# Altium footprint library PCB_Marking_Lib.PcbLib: 70 footprints (part 1 of 5)
Each footprint in its own frame and in the unit in brackets; x right, y up, seen from the top. Pads: shape width x height; smd on the part's side, far side on the other; paste and mask are expansions set on the pad; w line width, h text height; cw(c..) or ccw(c..) is an arc to the next point about the centre after c.
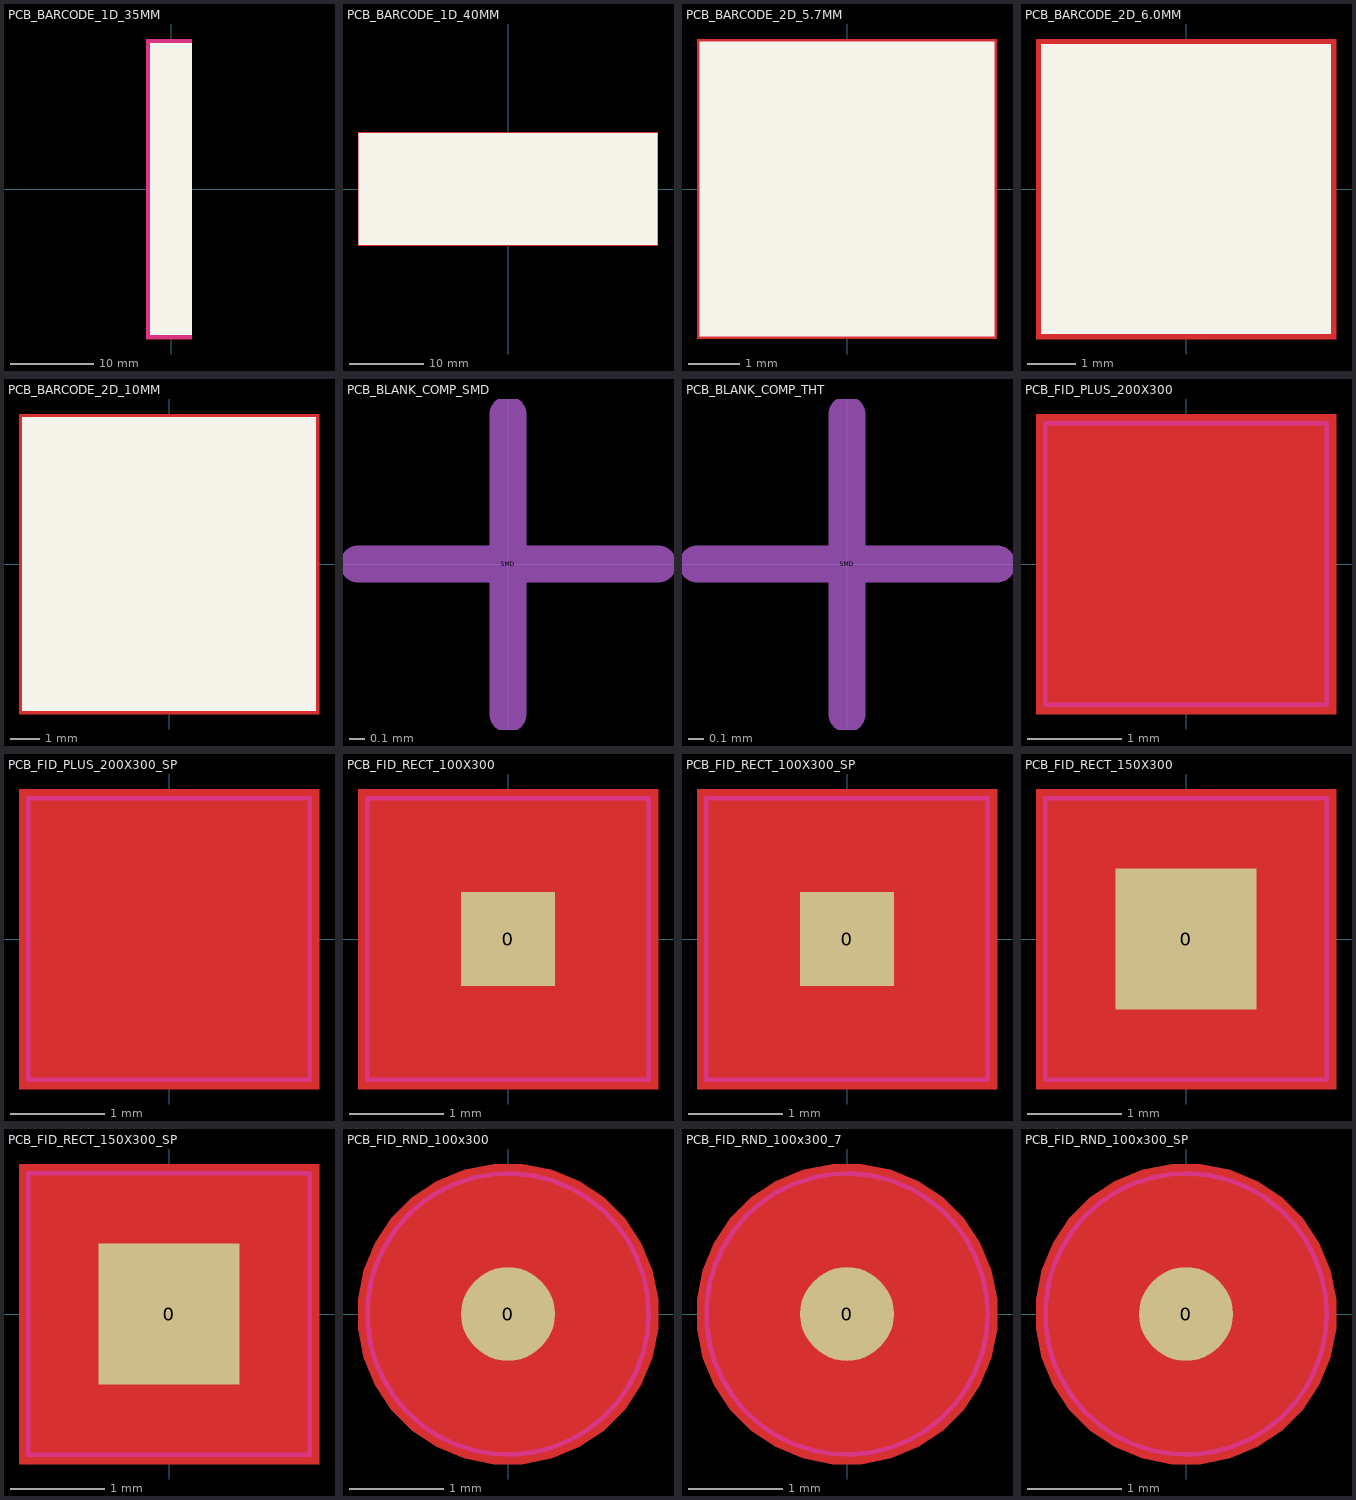
[diagram p0: the footprints below, top view; thin cyan lines are the x and y axes]

## PCB_BARCODE_1D_35MM [mm]
Top Layer:
  pour cut-out: -3,18 2.5,18 2.5,-18 -3,-18
Top Layer keep-out:
  rectangle: -3,-18 2.5,18
Top Overlay:
  rectangle: -2.5,-17.5 2.5,17.5

## PCB_BARCODE_1D_40MM [mm]
Top Layer:
  pour cut-out: -20.1,7.6 20.1,7.6 20.1,-7.6 -20.1,-7.6
Top Layer keep-out:
  rectangle: -20,-7.5 20,7.5
Top Overlay:
  rectangle: -20,-7.5 20,7.5

## PCB_BARCODE_2D_5.7MM [mm]
Top Layer:
  pour cut-out: -2.9,2.9 2.9,2.9 2.9,-2.9 -2.9,-2.9
Top Layer keep-out:
  rectangle: -2.85,-2.85 2.85,2.85
Top Overlay:
  rectangle: -2.85,-2.85 2.85,2.85

## PCB_BARCODE_2D_6.0MM [mm]
Top Layer:
  pour cut-out: -3.1,3.1 3.1,3.1 3.1,-3.1 -3.1,-3.1
Top Layer keep-out:
  rectangle: -3,-3 3,3
Top Overlay:
  rectangle: -3,-3 3,3

## PCB_BARCODE_2D_10MM [mm]
Top Layer:
  pour cut-out: -5.1,5.1 5.1,5.1 5.1,-5.1 -5.1,-5.1
Top Layer keep-out:
  rectangle: -5,-5 5,5
Top Overlay:
  rectangle: -5,-5 5,5

## PCB_BLANK_COMP_SMD [mm]
pads (1):
  round 0.1 on Mech19: SMD(0,0)
Mechanical 19:
  lines w0.25: -1,0 1,0 ; 0,-1 0,1
  text ".Designator" at -8.95,2.1 h2

## PCB_BLANK_COMP_THT [mm]
pads (1):
  round 0.1 on Mech21: SMD(0,0)
Mechanical 21:
  lines w0.25: -1,0 1,0 ; 0,-1 0,1
  text ".Designator" at -8.95,2.1 h2

## PCB_FID_PLUS_200X300 [mm]
Top Layer:
  pour cut-out: -1.6,1.6 1.6,1.6 1.6,-1.6 -1.6,-1.6
  region: -0.2,-1 -0.2,-0.2 -1,-0.2 -1,0.2 -0.2,0.2 -0.2,1 0.2,1 0.2,0.2 1,0.2 1,-0.2 0.2,-0.2 0.2,-1
Top Layer keep-out:
  lines w0.05: -1.5,-1.5 -1.5,1.5 1.5,1.5 1.5,-1.5 -1.5,-1.5
Top Solder:
  rectangle: -1.5,-1.5 1.5,1.5

## PCB_FID_PLUS_200X300_SP [mm]
Top Layer:
  pour cut-out: -1.6,1.6 1.6,1.6 1.6,-1.6 -1.6,-1.6
  region: -0.2,-1 -0.2,-0.2 -1,-0.2 -1,0.2 -0.2,0.2 -0.2,1 0.2,1 0.2,0.2 1,0.2 1,-0.2 0.2,-0.2 0.2,-1
Top Layer keep-out:
  lines w0.05: -1.5,-1.5 1.5,-1.5 1.5,1.5 -1.5,1.5 -1.5,-1.5
Top Solder:
  rectangle: -1.5,-1.5 1.5,1.5

## PCB_FID_RECT_100X300 [mm]
pads (1):
  rect 1x1 smd paste-10 mask+0.2: 0(0,0)
Top Layer:
  pour cut-out: -1.6,1.6 1.6,1.6 1.6,-1.6 -1.6,-1.6
Top Layer keep-out:
  lines w0.05: -1.5,-1.5 -1.5,1.5 1.5,1.5 1.5,-1.5 -1.5,-1.5
Top Solder:
  rectangle: -1.5,-1.5 1.5,1.5

## PCB_FID_RECT_100X300_SP [mm]
pads (1):
  rect 1x1 smd paste+0 mask+0.2: 0(0,0)
Top Layer:
  pour cut-out: -1.6,1.6 1.6,1.6 1.6,-1.6 -1.6,-1.6
Top Layer keep-out:
  lines w0.05: -1.5,-1.5 -1.5,1.5 1.5,1.5 1.5,-1.5 -1.5,-1.5
Top Solder:
  rectangle: -1.5,-1.5 1.5,1.5

## PCB_FID_RECT_150X300 [mm]
pads (1):
  rect 1.5x1.5 smd paste-10 mask+0.2: 0(0,0)
Top Layer:
  pour cut-out: -1.6,1.6 1.6,1.6 1.6,-1.6 -1.6,-1.6
Top Layer keep-out:
  lines w0.05: -1.5,-1.5 1.5,-1.5 1.5,1.5 -1.5,1.5 -1.5,-1.5
Top Solder:
  rectangle: -1.5,-1.5 1.5,1.5

## PCB_FID_RECT_150X300_SP [mm]
pads (1):
  rect 1.5x1.5 smd paste+0 mask+0.2: 0(0,0)
Top Layer:
  pour cut-out: -1.6,1.6 1.6,1.6 1.6,-1.6 -1.6,-1.6
Top Layer keep-out:
  lines w0.05: -1.5,-1.5 -1.5,1.5 1.5,1.5 1.5,-1.5 -1.5,-1.5
Top Solder:
  rectangle: -1.5,-1.5 1.5,1.5

## PCB_FID_RND_100x300 [mm]
pads (1):
  round 1 smd paste-10 mask+1: 0(0,0)
Top Layer:
  pour cut-out: -1.6,0 -1.6,-0.158 -1.539,-0.467 -1.418,-0.758 -1.243,-1.02 -1.02,-1.243 -0.758,-1.418 -0.467,-1.539 -0.158,-1.6 0,-1.6 0.158,-1.6 0.467,-1.539 0.758,-1.418 1.02,-1.243 1.243,-1.02 1.418,-0.758 1.539,-0.467 1.6,-0.158 1.6,0 1.6,0.158 1.539,0.467 1.418,0.758 1.243,1.02 1.02,1.243 0.758,1.418 0.467,1.539 0.158,1.6 0,1.6 -0.158,1.6 -0.467,1.539 -0.758,1.418 -1.02,1.243 -1.243,1.02 -1.418,0.758 -1.539,0.467 -1.6,0.158
Top Layer keep-out:
  circle w0.05: c0,0 r1.5
Top Paste:
  pour cut-out: 0,1.6

## PCB_FID_RND_100x300_7 [mm]
pads (1):
  round 1 smd paste-10 mask+1: 0(0,0)
Top Layer:
  pour cut-out: -1.6,0 -1.6,-0.158 -1.539,-0.467 -1.418,-0.758 -1.243,-1.02 -1.02,-1.243 -0.758,-1.418 -0.467,-1.539 -0.158,-1.6 0,-1.6 0.158,-1.6 0.467,-1.539 0.758,-1.418 1.02,-1.243 1.243,-1.02 1.418,-0.758 1.539,-0.467 1.6,-0.158 1.6,0 1.6,0.158 1.539,0.467 1.418,0.758 1.243,1.02 1.02,1.243 0.758,1.418 0.467,1.539 0.158,1.6 0,1.6 -0.158,1.6 -0.467,1.539 -0.758,1.418 -1.02,1.243 -1.243,1.02 -1.418,0.758 -1.539,0.467 -1.6,0.158
Top Layer keep-out:
  circle w0.05: c0,0 r1.5
Top Paste:
  pour cut-out: 0,1.6

## PCB_FID_RND_100x300_SP [mm]
pads (1):
  round 1 smd paste+0 mask+1: 0(0,0)
Top Layer:
  pour cut-out: -1.6,0 -1.6,-0.158 -1.539,-0.467 -1.418,-0.758 -1.243,-1.02 -1.02,-1.243 -0.758,-1.418 -0.467,-1.539 -0.158,-1.6 0,-1.6 0.158,-1.6 0.467,-1.539 0.758,-1.418 1.02,-1.243 1.243,-1.02 1.418,-0.758 1.539,-0.467 1.6,-0.158 1.6,0 1.6,0.158 1.539,0.467 1.418,0.758 1.243,1.02 1.02,1.243 0.758,1.418 0.467,1.539 0.158,1.6 0,1.6 -0.158,1.6 -0.467,1.539 -0.758,1.418 -1.02,1.243 -1.243,1.02 -1.418,0.758 -1.539,0.467 -1.6,0.158
Top Layer keep-out:
  circle w0.05: c0,0 r1.5